# Altium footprint library spinal_electrode_8pin.PcbLib: 1 footprints
Each footprint in its own frame and in the unit in brackets; x right, y up, seen from the top. Pads: shape width x height; smd on the part's side, far side on the other; paste and mask are expansions set on the pad; w line width, h text height; cw(c..) or ccw(c..) is an arc to the next point about the centre after c.
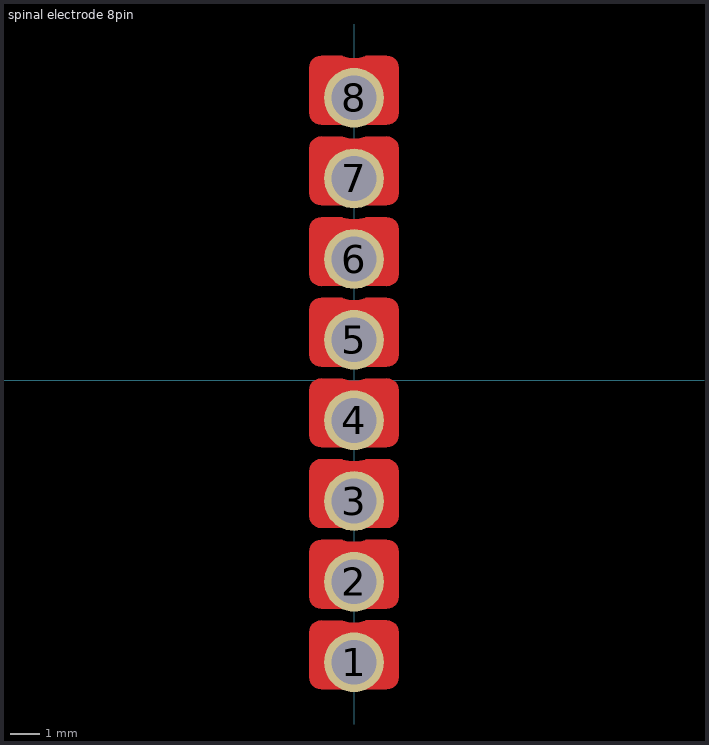
[diagram p0: the footprint, top view; thin cyan lines are the x and y axes]

## spinal electrode 8pin [mm]
pads (8):
  round 2 / inner round 2.5 / far side round 2.55 hole 1.5: 1(0,-9.45) 2(0,-6.75) 3(0,-4.05) 4(0,-1.35) 5(0,1.35) 6(0,4.05) 7(0,6.75) 8(0,9.45)
Top Layer:
  region: -1.1,8.547 -1.204,8.56 -1.302,8.601 -1.385,8.665 -1.449,8.748 -1.49,8.846 -1.503,8.95 -1.5,8.95 -1.503,10.45 -1.49,10.554 -1.449,10.652 -1.385,10.735 -1.302,10.799 -1.204,10.84 -1.1,10.853 -1.1,10.85 -0.402,10.849 -0.372,10.837 -0.188,10.793 0,10.778 0.188,10.793 0.372,10.837 0.4,10.848 0.4,10.85 1.1,10.853 1.204,10.84 1.302,10.799 1.385,10.735 1.449,10.652 1.49,10.554 1.503,10.45 1.5,10.45 1.503,8.95 1.49,8.846 1.449,8.748 1.385,8.665 1.302,8.601 1.204,8.56 1.1,8.547 1.1,8.55 -1.1,8.55
  region: -1.1,5.847 -1.204,5.86 -1.302,5.901 -1.385,5.965 -1.449,6.048 -1.49,6.146 -1.503,6.25 -1.5,6.25 -1.503,7.75 -1.49,7.854 -1.449,7.952 -1.385,8.035 -1.302,8.099 -1.204,8.14 -1.1,8.153 -1.1,8.15 -0.402,8.149 -0.372,8.137 -0.188,8.093 0,8.078 0.188,8.093 0.372,8.137 0.4,8.148 0.4,8.15 1.1,8.153 1.204,8.14 1.302,8.099 1.385,8.035 1.449,7.952 1.49,7.854 1.503,7.75 1.5,7.75 1.503,6.25 1.49,6.146 1.449,6.048 1.385,5.965 1.302,5.901 1.204,5.86 1.1,5.847 1.1,5.85 -1.1,5.85
  region: -1.1,3.147 -1.204,3.16 -1.302,3.201 -1.385,3.265 -1.449,3.348 -1.49,3.446 -1.503,3.55 -1.5,3.55 -1.503,5.05 -1.49,5.154 -1.449,5.252 -1.385,5.335 -1.302,5.399 -1.204,5.44 -1.1,5.453 -1.1,5.45 -0.402,5.449 -0.372,5.437 -0.188,5.393 0,5.378 0.188,5.393 0.372,5.437 0.4,5.448 0.4,5.45 1.1,5.453 1.204,5.44 1.302,5.399 1.385,5.335 1.449,5.252 1.49,5.154 1.503,5.05 1.5,5.05 1.503,3.55 1.49,3.446 1.449,3.348 1.385,3.265 1.302,3.201 1.204,3.16 1.1,3.147 1.1,3.15 -1.1,3.15
  region: -1.1,0.447 -1.204,0.46 -1.302,0.501 -1.385,0.565 -1.449,0.648 -1.49,0.746 -1.503,0.85 -1.5,0.85 -1.503,2.35 -1.49,2.454 -1.449,2.552 -1.385,2.635 -1.302,2.699 -1.204,2.74 -1.1,2.753 -1.1,2.75 -0.402,2.749 -0.372,2.737 -0.188,2.693 0,2.678 0.188,2.693 0.372,2.737 0.4,2.748 0.4,2.75 1.1,2.753 1.204,2.74 1.302,2.699 1.385,2.635 1.449,2.552 1.49,2.454 1.503,2.35 1.5,2.35 1.503,0.85 1.49,0.746 1.449,0.648 1.385,0.565 1.302,0.501 1.204,0.46 1.1,0.447 1.1,0.45 -1.1,0.45
  region: -1.1,-2.253 -1.204,-2.24 -1.302,-2.199 -1.385,-2.135 -1.449,-2.052 -1.49,-1.954 -1.503,-1.85 -1.5,-1.85 -1.503,-0.35 -1.49,-0.246 -1.449,-0.148 -1.385,-0.065 -1.302,-0.001 -1.204,0.04 -1.1,0.053 -1.1,0.05 -0.402,0.049 -0.372,0.037 -0.188,-0.007 0,-0.022 0.188,-0.007 0.372,0.037 0.4,0.048 0.4,0.05 1.1,0.053 1.204,0.04 1.302,-0.001 1.385,-0.065 1.449,-0.148 1.49,-0.246 1.503,-0.35 1.5,-0.35 1.503,-1.85 1.49,-1.954 1.449,-2.052 1.385,-2.135 1.302,-2.199 1.204,-2.24 1.1,-2.253 1.1,-2.25 -1.1,-2.25
  region: -1.1,-4.953 -1.204,-4.94 -1.302,-4.899 -1.385,-4.835 -1.449,-4.752 -1.49,-4.654 -1.503,-4.55 -1.5,-4.55 -1.503,-3.05 -1.49,-2.946 -1.449,-2.848 -1.385,-2.765 -1.302,-2.701 -1.204,-2.66 -1.1,-2.647 -1.1,-2.65 -0.402,-2.651 -0.372,-2.663 -0.188,-2.707 0,-2.722 0.188,-2.707 0.372,-2.663 0.4,-2.652 0.4,-2.65 1.1,-2.647 1.204,-2.66 1.302,-2.701 1.385,-2.765 1.449,-2.848 1.49,-2.946 1.503,-3.05 1.5,-3.05 1.503,-4.55 1.49,-4.654 1.449,-4.752 1.385,-4.835 1.302,-4.899 1.204,-4.94 1.1,-4.953 1.1,-4.95 -1.1,-4.95
  region: -1.1,-7.653 -1.204,-7.64 -1.302,-7.599 -1.385,-7.535 -1.449,-7.452 -1.49,-7.354 -1.503,-7.25 -1.5,-7.25 -1.503,-5.75 -1.49,-5.646 -1.449,-5.548 -1.385,-5.465 -1.302,-5.401 -1.204,-5.36 -1.1,-5.347 -1.1,-5.35 -0.402,-5.351 -0.372,-5.363 -0.188,-5.407 0,-5.422 0.188,-5.407 0.372,-5.363 0.4,-5.352 0.4,-5.35 1.1,-5.347 1.204,-5.36 1.302,-5.401 1.385,-5.465 1.449,-5.548 1.49,-5.646 1.503,-5.75 1.5,-5.75 1.503,-7.25 1.49,-7.354 1.449,-7.452 1.385,-7.535 1.302,-7.599 1.204,-7.64 1.1,-7.653 1.1,-7.65 -1.1,-7.65
  region: -1.1,-10.353 -1.204,-10.34 -1.302,-10.299 -1.385,-10.235 -1.449,-10.152 -1.49,-10.054 -1.503,-9.95 -1.5,-9.95 -1.503,-8.45 -1.49,-8.346 -1.449,-8.248 -1.385,-8.165 -1.302,-8.101 -1.204,-8.06 -1.1,-8.047 -1.1,-8.05 -0.402,-8.051 -0.372,-8.063 -0.188,-8.107 0,-8.122 0.188,-8.107 0.372,-8.063 0.4,-8.052 0.4,-8.05 1.1,-8.047 1.204,-8.06 1.302,-8.101 1.385,-8.165 1.449,-8.248 1.49,-8.346 1.503,-8.45 1.5,-8.45 1.503,-9.95 1.49,-10.054 1.449,-10.152 1.385,-10.235 1.302,-10.299 1.204,-10.34 1.1,-10.353 1.1,-10.35 -1.1,-10.35
Top Overlay:
  text "." at -0.281,-11.769 h3
Top Solder:
  drawing of 8 lines, arcs and shapes, not listed